# Altium schematic symbol library AG.Relays.SchLib: 2 symbols
Pins are listed as number, name and electrical type; pins without a type are passive.

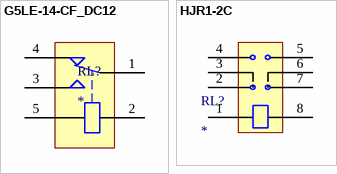
[diagram p0: symbols G5LE-14-CF_DC12 to HJR1-2C]

## G5LE-14-CF_DC12
designator RL?
RELAY GEN PURPOSE SPDT 10A 12V; PartNo: Z5216-ND; Manufacturer: Omron Electronics Inc-EMC Div; ProductNumber: G5LE-14-CF DC12; DetailedDescription: General Purpose Relay SPDT (1 Form C) 12VDC Coil Through Hole; ShippingPackage: Tube; CoilType: Non-Latching; RelayType: General Purpose; CoilResistance: 360 Ohm; SealRating: Full; ContactForm: SPDT (1 Form C); Supplier: DigiKey; URL: https://www.digikey.com/en/products/detail/omron-electronics-inc-emc-div/G5LE-14-CF-DC12/368993; UnitPrice: $1.69; CoilVoltage: 12V; ContactRating: 10A
footprint G5LE-14 (RELAY GEN PURPOSE SPDT)
pins: 1 COM, 2 SW2, 3 NO, 4 NC, 5 SW1

## HJR1-2C
designator RL?
Supplier Link: https://belchip.by/product/?selected_product=32041; Supplier: Belchip
footprint HJR1-2C
pins: 1 SW, 2 NC1, 3 COM1, 4 NO1, 5 NO2, 6 COM2, 7 NC2, 8 SW